# Altium footprint library Pheonix_Header_6X2_pin.PcbLib: 1 footprints
Each footprint in its own frame and in the unit in brackets; x right, y up, seen from the top. Pads: shape width x height; smd on the part's side, far side on the other; paste and mask are expansions set on the pad; w line width, h text height; cw(c..) or ccw(c..) is an arc to the next point about the centre after c.
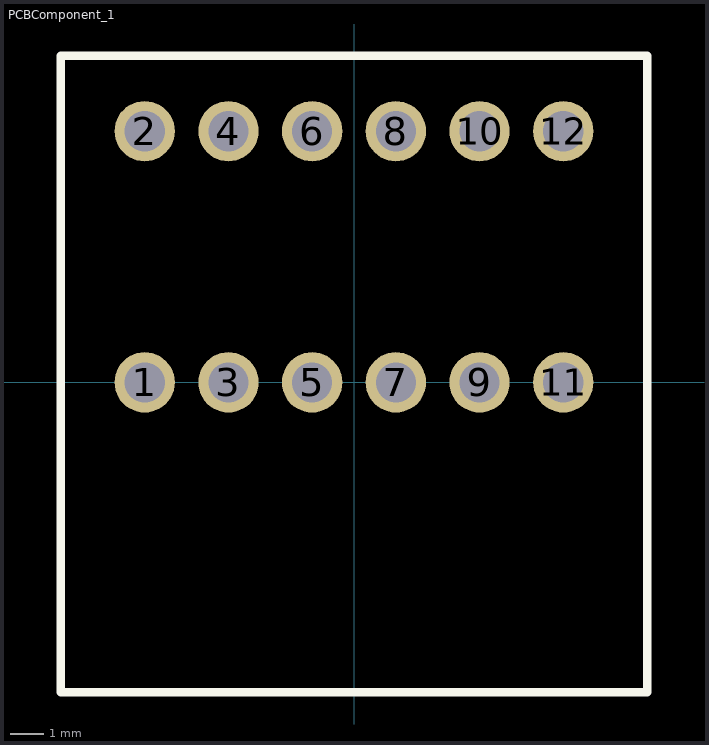
[diagram p0: the footprint, top view; thin cyan lines are the x and y axes]

## PCBComponent_1 [mm]
pads (12):
  round 1.8 hole 1.2: 1(-6.25,0) 2(-6.25,7.5) 3(-3.75,0) 4(-3.75,7.5) 5(-1.25,0) 6(-1.25,7.5) 7(1.25,0) 8(1.25,7.5) 9(3.75,0) 10(3.75,7.5) 11(6.25,0) 12(6.25,7.5)
Top Overlay:
  lines w0.254: -8.75,-9.25 -8.75,9.75 8.75,9.75 8.75,-9.25 -8.75,-9.25